# Altium integrated library Analog Devices Data Converters Digital-to-Analog Converters.IntLib: 2231 symbols (part 9 of 181)
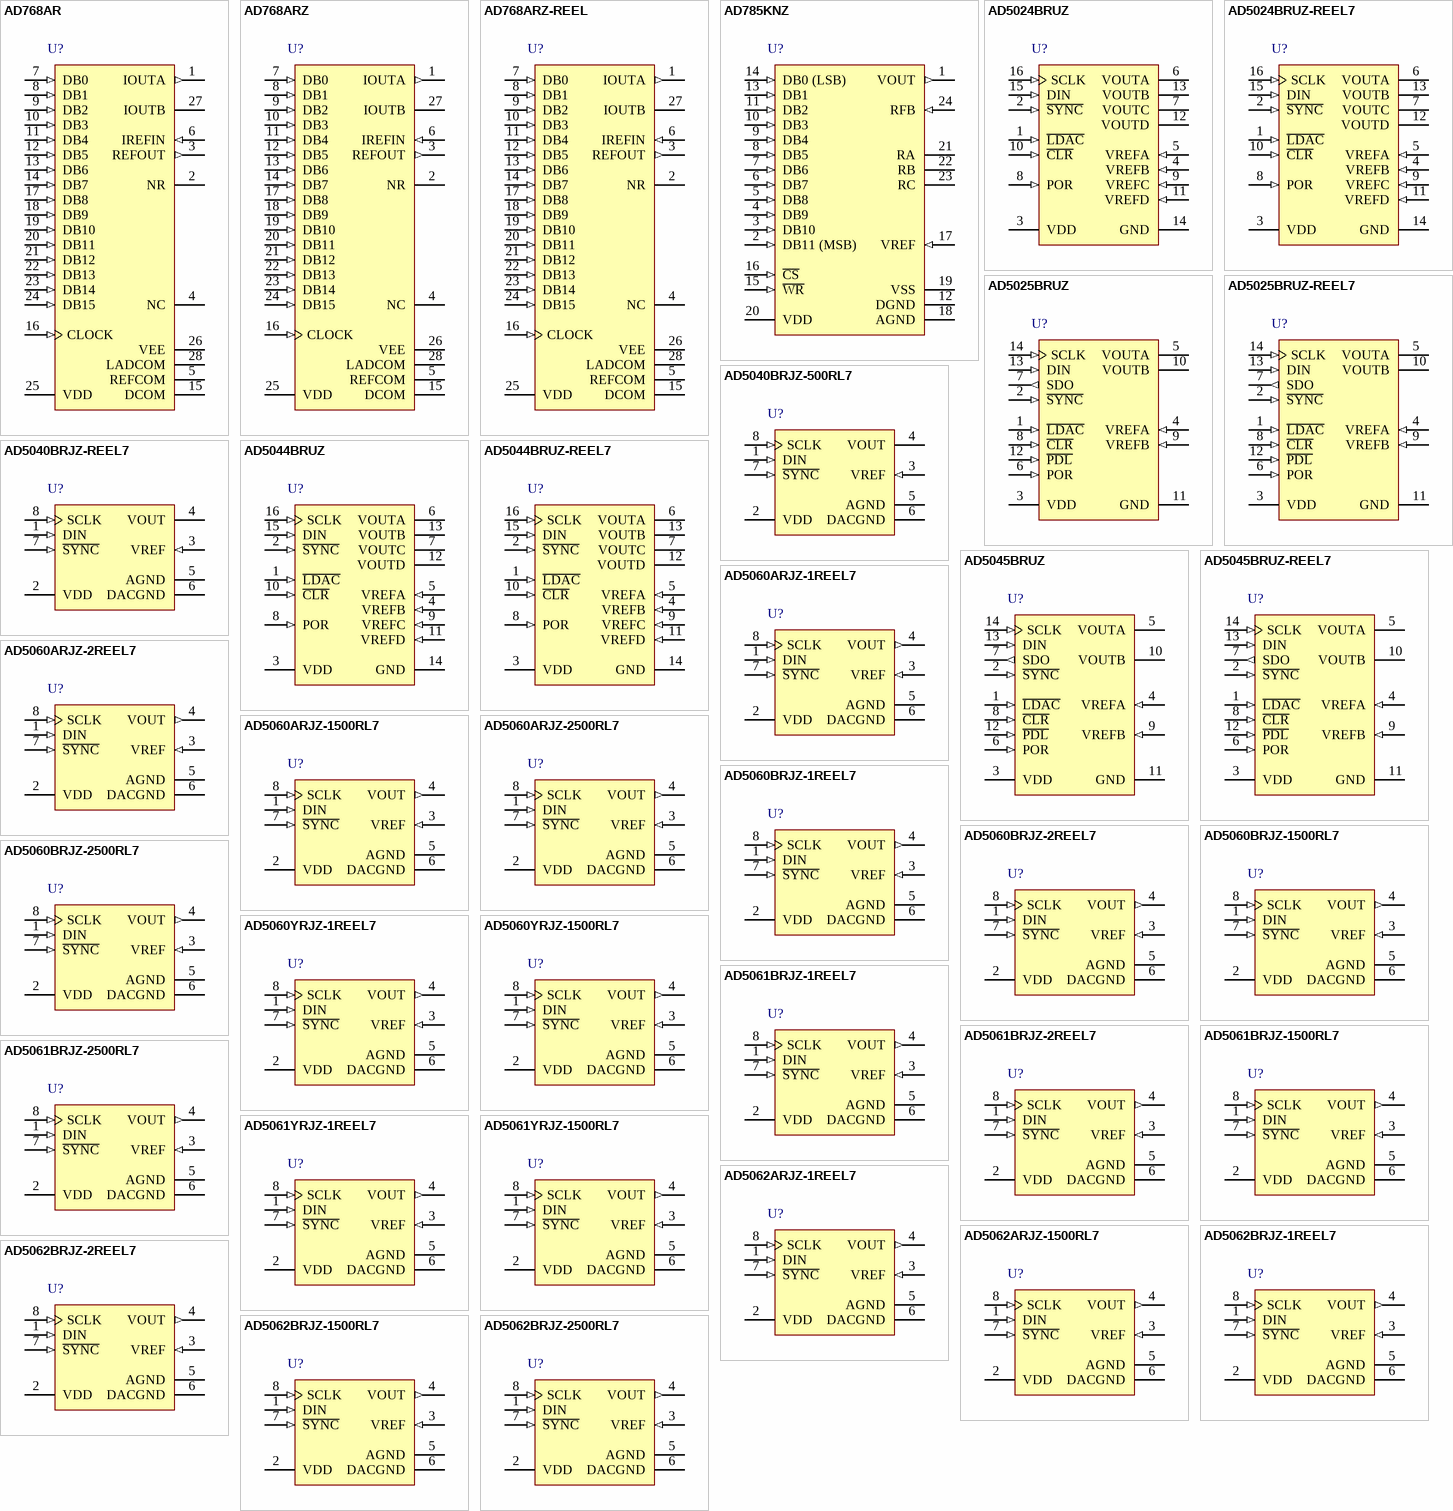
[diagram p122: symbols AD768AR to AD5062BRJZ-2500RL7]

## AD5060ARJZ-2REEL7
designator U?
Single 16-Bit Fully Accurate Voltage Output nanoDAC with SPI Interface, 2.7 to 5.5 V, -40 to +85 degC, RJ-8, Pb-Free, Reel; Generic Part Number: AD5060; Manufacturer: Analog Devices; PartNumber: AD5060ARJZ-2REEL7; # DAC Outputs: 1; Max V+: 5.5V; Op Pwr Diss: 6mW; Resolution (Bits): 16; Settling Time: 4µs; Single Supply: Yes; DatasheetVersion: Rev.A; PackageVersion: 121608-A; PackageReference: RJ-8; PackageDescription: 8-Lead Thin Small Outline Transistor Package [SOT-23]; Supplier 1: Digi-Key; Supplier Part Number 1: AD5060ARJZ-2REEL7TR-ND; Supplier 2: Digi-Key; Supplier Part Number 2: AD5060ARJZ-2REEL7CT-ND; Supplier 3: Digi-Key; Supplier Part Number 3: AD5060ARJZ-2REEL7DKR-ND; Supplier 4: Mouser; Supplier Part Number 4: 584-AD5060ARJZ-2R7; Packing: Reel; RoHS: Y; Mounting Technology: Surface Mount; Code_JEDEC: MO-178-BA; ComponentLink1Description: Manufacturer URL; ComponentLink1URL: http://www.analog.com/en/index.html; ComponentLink2Description: Datasheet; ComponentLink2URL: http://www.analog.com/static/imported-files/data_sheets/AD5040_5060.pdf; ComponentLink3Description: Package Specification; ComponentLink3URL: http://www.analog.com/static/imported-files/packages/PKG_PDF/SOT-23(RJ)/RJ_8.pdf; ComponentLink4Description: Product URL; ComponentLink4URL: http://www.analog.com/en/digital-to-analog-converters/da-converters/ad5060/products/product.html
footprint RJ-8_N (SOP, 8-Leads, Body 2.9x1.6mm, Pitch 0.65mm, IPC Medium Density)
footprint RJ-8_L (SOP, 8-Leads, Body 2.9x1.6mm, Pitch 0.65mm, IPC High Density)
footprint RJ-8_M (SOP, 8-Leads, Body 2.9x1.6mm, Pitch 0.65mm, IPC Low Density)
pins: 1 DIN (in) "Serial Data Input. These parts have a 16-/24-bit shift register. Data is clocked into the register on the falling edge of the serial clock input.", 2 VDD (power) "Power Supply Input. These parts can be operated from 2.7 V to 5.5 V and VDD should be decoupled to GND", 3 VREF (in) "Reference Voltage Input.", 4 VOUT (out) "Analog Output Voltage from DAC.", 5 AGND (power) "Ground Reference Point for Analog Circuitry.", 6 DACGND (power) "Ground Input to the DAC Core.", 7 ~{SYNC} (in) "Level-Triggered Control Input (Active Low). This is the frame synchronization signal for the input data. When S\Y\N\C\ goes low, it enables the input shift register and data is transferred in on the falling edges of the (See Datasheet)", 8 SCLK (in) "Serial Clock Input. Data is clocked into the input shift register on the falling edge of the serial clock input. Data can be transferred at rates up to 30 MHz."

## AD5060ARJZ-1500RL7
designator U?
Single 16-Bit Fully Accurate Voltage Output nanoDAC with SPI Interface, 2.7 to 5.5 V, -40 to +85 degC, RJ-8, Pb-Free, Reel; Generic Part Number: AD5060; Manufacturer: Analog Devices; PartNumber: AD5060ARJZ-1500RL7; # DAC Outputs: 1; Max V+: 5.5V; Op Pwr Diss: 6mW; Resolution (Bits): 16; Settling Time: 4µs; Single Supply: Yes; DatasheetVersion: Rev.A; PackageVersion: 121608-A; PackageReference: RJ-8; PackageDescription: 8-Lead Thin Small Outline Transistor Package [SOT-23]; Supplier 1: Digi-Key; Supplier Part Number 1: AD5060ARJZ-1500RL7-ND; Supplier 2: Farnell; Supplier Part Number 2: 2067823; Supplier 3: Newark; Supplier Part Number 3: 72T0891; Supplier 4: Newark; Supplier Part Number 4: 12M8477; Supplier 5: Mouser; Supplier Part Number 5: 584-AD5060ARJZ1500R7; Packing: Reel; RoHS: Y; Mounting Technology: Surface Mount; Code_JEDEC: MO-178-BA; ComponentLink1Description: Manufacturer URL; ComponentLink1URL: http://www.analog.com/en/index.html; ComponentLink2Description: Datasheet; ComponentLink2URL: http://www.analog.com/static/imported-files/data_sheets/AD5040_5060.pdf; ComponentLink3Description: Package Specification; ComponentLink3URL: http://www.analog.com/static/imported-files/packages/PKG_PDF/SOT-23(RJ)/RJ_8.pdf; ComponentLink4Description: Product URL; ComponentLink4URL: http://www.analog.com/en/digital-to-analog-converters/da-converters/ad5060/products/product.html
footprint RJ-8_N (SOP, 8-Leads, Body 2.9x1.6mm, Pitch 0.65mm, IPC Medium Density)
footprint RJ-8_L (SOP, 8-Leads, Body 2.9x1.6mm, Pitch 0.65mm, IPC High Density)
footprint RJ-8_M (SOP, 8-Leads, Body 2.9x1.6mm, Pitch 0.65mm, IPC Low Density)
pins: 1 DIN (in) "Serial Data Input. These parts have a 16-/24-bit shift register. Data is clocked into the register on the falling edge of the serial clock input.", 2 VDD (power) "Power Supply Input. These parts can be operated from 2.7 V to 5.5 V and VDD should be decoupled to GND", 3 VREF (in) "Reference Voltage Input.", 4 VOUT (out) "Analog Output Voltage from DAC.", 5 AGND (power) "Ground Reference Point for Analog Circuitry.", 6 DACGND (power) "Ground Input to the DAC Core.", 7 ~{SYNC} (in) "Level-Triggered Control Input (Active Low). This is the frame synchronization signal for the input data. When S\Y\N\C\ goes low, it enables the input shift register and data is transferred in on the falling edges of the (See Datasheet)", 8 SCLK (in) "Serial Clock Input. Data is clocked into the input shift register on the falling edge of the serial clock input. Data can be transferred at rates up to 30 MHz."

## AD5060ARJZ-2500RL7
designator U?
Single 16-Bit Fully Accurate Voltage Output nanoDAC with SPI Interface, 2.7 to 5.5 V, -40 to +85 degC, RJ-8, Pb-Free, Reel; Generic Part Number: AD5060; Manufacturer: Analog Devices; PartNumber: AD5060ARJZ-2500RL7; # DAC Outputs: 1; Max V+: 5.5V; Op Pwr Diss: 6mW; Resolution (Bits): 16; Settling Time: 4µs; Single Supply: Yes; DatasheetVersion: Rev.A; PackageVersion: 121608-A; PackageReference: RJ-8; PackageDescription: 8-Lead Thin Small Outline Transistor Package [SOT-23]; Supplier 1: Digi-Key; Supplier Part Number 1: AD5060ARJZ-2500RL7TR-ND; Supplier 2: Digi-Key; Supplier Part Number 2: AD5060ARJZ-2500RL7CT-ND; Supplier 3: Digi-Key; Supplier Part Number 3: AD5060ARJZ-2500RL7DKR-ND; Supplier 4: Farnell; Supplier Part Number 4: 2067824; Supplier 5: Farnell; Supplier Part Number 5: 2067824RL; Supplier 6: Newark; Supplier Part Number 6: 72T0892; Supplier 7: Newark; Supplier Part Number 7: 12M8479; Supplier 8: Mouser; Supplier Part Number 8: 584-AD5060ARJZ2500R7; Packing: Reel; RoHS: Y; Mounting Technology: Surface Mount; Code_JEDEC: MO-178-BA; ComponentLink1Description: Manufacturer URL; ComponentLink1URL: http://www.analog.com/en/index.html; ComponentLink2Description: Datasheet; ComponentLink2URL: http://www.analog.com/static/imported-files/data_sheets/AD5040_5060.pdf; ComponentLink3Description: Package Specification; ComponentLink3URL: http://www.analog.com/static/imported-files/packages/PKG_PDF/SOT-23(RJ)/RJ_8.pdf; ComponentLink4Description: Product URL; ComponentLink4URL: http://www.analog.com/en/digital-to-analog-converters/da-converters/ad5060/products/product.html
footprint RJ-8_N (SOP, 8-Leads, Body 2.9x1.6mm, Pitch 0.65mm, IPC Medium Density)
footprint RJ-8_L (SOP, 8-Leads, Body 2.9x1.6mm, Pitch 0.65mm, IPC High Density)
footprint RJ-8_M (SOP, 8-Leads, Body 2.9x1.6mm, Pitch 0.65mm, IPC Low Density)
pins: 1 DIN (in) "Serial Data Input. These parts have a 16-/24-bit shift register. Data is clocked into the register on the falling edge of the serial clock input.", 2 VDD (power) "Power Supply Input. These parts can be operated from 2.7 V to 5.5 V and VDD should be decoupled to GND", 3 VREF (in) "Reference Voltage Input.", 4 VOUT (out) "Analog Output Voltage from DAC.", 5 AGND (power) "Ground Reference Point for Analog Circuitry.", 6 DACGND (power) "Ground Input to the DAC Core.", 7 ~{SYNC} (in) "Level-Triggered Control Input (Active Low). This is the frame synchronization signal for the input data. When S\Y\N\C\ goes low, it enables the input shift register and data is transferred in on the falling edges of the (See Datasheet)", 8 SCLK (in) "Serial Clock Input. Data is clocked into the input shift register on the falling edge of the serial clock input. Data can be transferred at rates up to 30 MHz."

## AD5060BRJZ-1REEL7
designator U?
Single 16-Bit Fully Accurate Voltage Output nanoDAC with SPI Interface, 2.7 to 5.5 V, -40 to +85 degC, RJ-8, Pb-Free, Reel; Generic Part Number: AD5060; Manufacturer: Analog Devices; PartNumber: AD5060BRJZ-1REEL7; # DAC Outputs: 1; Max V+: 5.5V; Op Pwr Diss: 6mW; Resolution (Bits): 16; Settling Time: 4µs; Single Supply: Yes; DatasheetVersion: Rev.A; PackageVersion: 121608-A; PackageReference: RJ-8; PackageDescription: 8-Lead Thin Small Outline Transistor Package [SOT-23]; Supplier 1: Digi-Key; Supplier Part Number 1: AD5060BRJZ-1REEL7TR-ND; Supplier 2: Digi-Key; Supplier Part Number 2: AD5060BRJZ-1REEL7CT-ND; Supplier 3: Digi-Key; Supplier Part Number 3: AD5060BRJZ-1REEL7DKR-ND; Supplier 4: Farnell; Supplier Part Number 4: 2314126; Supplier 5: Newark; Supplier Part Number 5: 12M8480; Supplier 6: Newark; Supplier Part Number 6: 67W3154; Supplier 7: Mouser; Supplier Part Number 7: 584-AD5060BRJZ-1R7; Packing: Reel; RoHS: Y; Mounting Technology: Surface Mount; Code_JEDEC: MO-178-BA; ComponentLink1Description: Manufacturer URL; ComponentLink1URL: http://www.analog.com/en/index.html; ComponentLink2Description: Datasheet; ComponentLink2URL: http://www.analog.com/static/imported-files/data_sheets/AD5040_5060.pdf; ComponentLink3Description: Package Specification; ComponentLink3URL: http://www.analog.com/static/imported-files/packages/PKG_PDF/SOT-23(RJ)/RJ_8.pdf; ComponentLink4Description: Product URL; ComponentLink4URL: http://www.analog.com/en/digital-to-analog-converters/da-converters/ad5060/products/product.html
footprint RJ-8_N (SOP, 8-Leads, Body 2.9x1.6mm, Pitch 0.65mm, IPC Medium Density)
footprint RJ-8_L (SOP, 8-Leads, Body 2.9x1.6mm, Pitch 0.65mm, IPC High Density)
footprint RJ-8_M (SOP, 8-Leads, Body 2.9x1.6mm, Pitch 0.65mm, IPC Low Density)
pins: 1 DIN (in) "Serial Data Input. These parts have a 16-/24-bit shift register. Data is clocked into the register on the falling edge of the serial clock input.", 2 VDD (power) "Power Supply Input. These parts can be operated from 2.7 V to 5.5 V and VDD should be decoupled to GND", 3 VREF (in) "Reference Voltage Input.", 4 VOUT (out) "Analog Output Voltage from DAC.", 5 AGND (power) "Ground Reference Point for Analog Circuitry.", 6 DACGND (power) "Ground Input to the DAC Core.", 7 ~{SYNC} (in) "Level-Triggered Control Input (Active Low). This is the frame synchronization signal for the input data. When S\Y\N\C\ goes low, it enables the input shift register and data is transferred in on the falling edges of the (See Datasheet)", 8 SCLK (in) "Serial Clock Input. Data is clocked into the input shift register on the falling edge of the serial clock input. Data can be transferred at rates up to 30 MHz."

## AD5060BRJZ-2REEL7
designator U?
Single 16-Bit Fully Accurate Voltage Output nanoDAC with SPI Interface, 2.7 to 5.5 V, -40 to +85 degC, RJ-8, Pb-Free, Reel; Generic Part Number: AD5060; Manufacturer: Analog Devices; PartNumber: AD5060BRJZ-2REEL7; # DAC Outputs: 1; Max V+: 5.5V; Op Pwr Diss: 6mW; Resolution (Bits): 16; Settling Time: 4µs; Single Supply: Yes; DatasheetVersion: Rev.A; PackageVersion: 121608-A; PackageReference: RJ-8; PackageDescription: 8-Lead Thin Small Outline Transistor Package [SOT-23]; Supplier 1: Digi-Key; Supplier Part Number 1: AD5060BRJZ-2REEL7TR-ND; Supplier 2: Digi-Key; Supplier Part Number 2: AD5060BRJZ-2REEL7CT-ND; Supplier 3: Digi-Key; Supplier Part Number 3: AD5060BRJZ-2REEL7DKR-ND; Supplier 4: Newark; Supplier Part Number 4: 12M8482; Supplier 5: Mouser; Supplier Part Number 5: 584-AD5060BRJZ-2R7; Packing: Reel; RoHS: Y; Mounting Technology: Surface Mount; Code_JEDEC: MO-178-BA; ComponentLink1Description: Manufacturer URL; ComponentLink1URL: http://www.analog.com/en/index.html; ComponentLink2Description: Datasheet; ComponentLink2URL: http://www.analog.com/static/imported-files/data_sheets/AD5040_5060.pdf; ComponentLink3Description: Package Specification; ComponentLink3URL: http://www.analog.com/static/imported-files/packages/PKG_PDF/SOT-23(RJ)/RJ_8.pdf; ComponentLink4Description: Product URL; ComponentLink4URL: http://www.analog.com/en/digital-to-analog-converters/da-converters/ad5060/products/product.html
footprint RJ-8_N (SOP, 8-Leads, Body 2.9x1.6mm, Pitch 0.65mm, IPC Medium Density)
footprint RJ-8_L (SOP, 8-Leads, Body 2.9x1.6mm, Pitch 0.65mm, IPC High Density)
footprint RJ-8_M (SOP, 8-Leads, Body 2.9x1.6mm, Pitch 0.65mm, IPC Low Density)
pins: 1 DIN (in) "Serial Data Input. These parts have a 16-/24-bit shift register. Data is clocked into the register on the falling edge of the serial clock input.", 2 VDD (power) "Power Supply Input. These parts can be operated from 2.7 V to 5.5 V and VDD should be decoupled to GND", 3 VREF (in) "Reference Voltage Input.", 4 VOUT (out) "Analog Output Voltage from DAC.", 5 AGND (power) "Ground Reference Point for Analog Circuitry.", 6 DACGND (power) "Ground Input to the DAC Core.", 7 ~{SYNC} (in) "Level-Triggered Control Input (Active Low). This is the frame synchronization signal for the input data. When S\Y\N\C\ goes low, it enables the input shift register and data is transferred in on the falling edges of the (See Datasheet)", 8 SCLK (in) "Serial Clock Input. Data is clocked into the input shift register on the falling edge of the serial clock input. Data can be transferred at rates up to 30 MHz."

## AD5060BRJZ-1500RL7
designator U?
Single 16-Bit Fully Accurate Voltage Output nanoDAC with SPI Interface, 2.7 to 5.5 V, -40 to +85 degC, RJ-8, Pb-Free, Reel; Generic Part Number: AD5060; Manufacturer: Analog Devices; PartNumber: AD5060BRJZ-1500RL7; # DAC Outputs: 1; Max V+: 5.5V; Op Pwr Diss: 6mW; Resolution (Bits): 16; Settling Time: 4µs; Single Supply: Yes; DatasheetVersion: Rev.A; PackageVersion: 121608-A; PackageReference: RJ-8; PackageDescription: 8-Lead Thin Small Outline Transistor Package [SOT-23]; Supplier 1: Digi-Key; Supplier Part Number 1: AD5060BRJZ-1500RL7-ND; Supplier 2: Farnell; Supplier Part Number 2: 2067825; Supplier 3: Newark; Supplier Part Number 3: 72T0893; Supplier 4: Newark; Supplier Part Number 4: 73T6331; Supplier 5: Newark; Supplier Part Number 5: 12M8481; Supplier 6: Mouser; Supplier Part Number 6: 584-AD5060BRJZ1500R7; Packing: Reel; RoHS: Y; Mounting Technology: Surface Mount; Code_JEDEC: MO-178-BA; ComponentLink1Description: Manufacturer URL; ComponentLink1URL: http://www.analog.com/en/index.html; ComponentLink2Description: Datasheet; ComponentLink2URL: http://www.analog.com/static/imported-files/data_sheets/AD5040_5060.pdf; ComponentLink3Description: Package Specification; ComponentLink3URL: http://www.analog.com/static/imported-files/packages/PKG_PDF/SOT-23(RJ)/RJ_8.pdf; ComponentLink4Description: Product URL; ComponentLink4URL: http://www.analog.com/en/digital-to-analog-converters/da-converters/ad5060/products/product.html
footprint RJ-8_N (SOP, 8-Leads, Body 2.9x1.6mm, Pitch 0.65mm, IPC Medium Density)
footprint RJ-8_L (SOP, 8-Leads, Body 2.9x1.6mm, Pitch 0.65mm, IPC High Density)
footprint RJ-8_M (SOP, 8-Leads, Body 2.9x1.6mm, Pitch 0.65mm, IPC Low Density)
pins: 1 DIN (in) "Serial Data Input. These parts have a 16-/24-bit shift register. Data is clocked into the register on the falling edge of the serial clock input.", 2 VDD (power) "Power Supply Input. These parts can be operated from 2.7 V to 5.5 V and VDD should be decoupled to GND", 3 VREF (in) "Reference Voltage Input.", 4 VOUT (out) "Analog Output Voltage from DAC.", 5 AGND (power) "Ground Reference Point for Analog Circuitry.", 6 DACGND (power) "Ground Input to the DAC Core.", 7 ~{SYNC} (in) "Level-Triggered Control Input (Active Low). This is the frame synchronization signal for the input data. When S\Y\N\C\ goes low, it enables the input shift register and data is transferred in on the falling edges of the (See Datasheet)", 8 SCLK (in) "Serial Clock Input. Data is clocked into the input shift register on the falling edge of the serial clock input. Data can be transferred at rates up to 30 MHz."

## AD5060BRJZ-2500RL7
designator U?
Single 16-Bit Fully Accurate Voltage Output nanoDAC with SPI Interface, 2.7 to 5.5 V, -40 to +85 degC, RJ-8, Pb-Free, Reel; Generic Part Number: AD5060; Manufacturer: Analog Devices; PartNumber: AD5060BRJZ-2500RL7; # DAC Outputs: 1; Max V+: 5.5V; Op Pwr Diss: 6mW; Resolution (Bits): 16; Settling Time: 4µs; Single Supply: Yes; DatasheetVersion: Rev.A; PackageVersion: 121608-A; PackageReference: RJ-8; PackageDescription: 8-Lead Thin Small Outline Transistor Package [SOT-23]; Supplier 1: Digi-Key; Supplier Part Number 1: AD5060BRJZ-2500RL7TR-ND; Supplier 2: Digi-Key; Supplier Part Number 2: AD5060BRJZ-2500RL7CT-ND; Supplier 3: Digi-Key; Supplier Part Number 3: AD5060BRJZ-2500RL7DKR-ND; Supplier 4: Farnell; Supplier Part Number 4: 2067826; Supplier 5: Newark; Supplier Part Number 5: 72T0894; Supplier 6: Newark; Supplier Part Number 6: 12M8483; Supplier 7: Mouser; Supplier Part Number 7: 584-AD5060BRJZ2500R7; Packing: Reel; RoHS: Y; Mounting Technology: Surface Mount; Code_JEDEC: MO-178-BA; ComponentLink1Description: Manufacturer URL; ComponentLink1URL: http://www.analog.com/en/index.html; ComponentLink2Description: Datasheet; ComponentLink2URL: http://www.analog.com/static/imported-files/data_sheets/AD5040_5060.pdf; ComponentLink3Description: Package Specification; ComponentLink3URL: http://www.analog.com/static/imported-files/packages/PKG_PDF/SOT-23(RJ)/RJ_8.pdf; ComponentLink4Description: Product URL; ComponentLink4URL: http://www.analog.com/en/digital-to-analog-converters/da-converters/ad5060/products/product.html
footprint RJ-8_N (SOP, 8-Leads, Body 2.9x1.6mm, Pitch 0.65mm, IPC Medium Density)
footprint RJ-8_L (SOP, 8-Leads, Body 2.9x1.6mm, Pitch 0.65mm, IPC High Density)
footprint RJ-8_M (SOP, 8-Leads, Body 2.9x1.6mm, Pitch 0.65mm, IPC Low Density)
pins: 1 DIN (in) "Serial Data Input. These parts have a 16-/24-bit shift register. Data is clocked into the register on the falling edge of the serial clock input.", 2 VDD (power) "Power Supply Input. These parts can be operated from 2.7 V to 5.5 V and VDD should be decoupled to GND", 3 VREF (in) "Reference Voltage Input.", 4 VOUT (out) "Analog Output Voltage from DAC.", 5 AGND (power) "Ground Reference Point for Analog Circuitry.", 6 DACGND (power) "Ground Input to the DAC Core.", 7 ~{SYNC} (in) "Level-Triggered Control Input (Active Low). This is the frame synchronization signal for the input data. When S\Y\N\C\ goes low, it enables the input shift register and data is transferred in on the falling edges of the (See Datasheet)", 8 SCLK (in) "Serial Clock Input. Data is clocked into the input shift register on the falling edge of the serial clock input. Data can be transferred at rates up to 30 MHz."

## AD5060YRJZ-1REEL7
designator U?
Single 16-Bit Fully Accurate Voltage Output nanoDAC with SPI Interface, 2.7 to 5.5 V, -40 to +125 degC, RJ-8, Pb-Free, Reel; Generic Part Number: AD5060; Manufacturer: Analog Devices; PartNumber: AD5060YRJZ-1REEL7; # DAC Outputs: 1; Max V+: 5.5V; Op Pwr Diss: 6mW; Resolution (Bits): 16; Settling Time: 4µs; Single Supply: Yes; DatasheetVersion: Rev.A; PackageVersion: 121608-A; PackageReference: RJ-8; PackageDescription: 8-Lead Thin Small Outline Transistor Package [SOT-23]; Supplier 1: Digi-Key; Supplier Part Number 1: AD5060YRJZ-1REEL7TR-ND; Supplier 2: Digi-Key; Supplier Part Number 2: AD5060YRJZ-1REEL7CT-ND; Supplier 3: Digi-Key; Supplier Part Number 3: AD5060YRJZ-1REEL7DKR-ND; Supplier 4: Mouser; Supplier Part Number 4: 584-AD5060YRJZ-1R7; Packing: Reel; RoHS: Y; Mounting Technology: Surface Mount; Code_JEDEC: MO-178-BA; ComponentLink1Description: Manufacturer URL; ComponentLink1URL: http://www.analog.com/en/index.html; ComponentLink2Description: Datasheet; ComponentLink2URL: http://www.analog.com/static/imported-files/data_sheets/AD5040_5060.pdf; ComponentLink3Description: Package Specification; ComponentLink3URL: http://www.analog.com/static/imported-files/packages/PKG_PDF/SOT-23(RJ)/RJ_8.pdf; ComponentLink4Description: Product URL; ComponentLink4URL: http://www.analog.com/en/digital-to-analog-converters/da-converters/ad5060/products/product.html
footprint RJ-8_N (SOP, 8-Leads, Body 2.9x1.6mm, Pitch 0.65mm, IPC Medium Density)
footprint RJ-8_L (SOP, 8-Leads, Body 2.9x1.6mm, Pitch 0.65mm, IPC High Density)
footprint RJ-8_M (SOP, 8-Leads, Body 2.9x1.6mm, Pitch 0.65mm, IPC Low Density)
pins: 1 DIN (in) "Serial Data Input. These parts have a 16-/24-bit shift register. Data is clocked into the register on the falling edge of the serial clock input.", 2 VDD (power) "Power Supply Input. These parts can be operated from 2.7 V to 5.5 V and VDD should be decoupled to GND", 3 VREF (in) "Reference Voltage Input.", 4 VOUT (out) "Analog Output Voltage from DAC.", 5 AGND (power) "Ground Reference Point for Analog Circuitry.", 6 DACGND (power) "Ground Input to the DAC Core.", 7 ~{SYNC} (in) "Level-Triggered Control Input (Active Low). This is the frame synchronization signal for the input data. When S\Y\N\C\ goes low, it enables the input shift register and data is transferred in on the falling edges of the (See Datasheet)", 8 SCLK (in) "Serial Clock Input. Data is clocked into the input shift register on the falling edge of the serial clock input. Data can be transferred at rates up to 30 MHz."

## AD5060YRJZ-1500RL7
designator U?
Single 16-Bit Fully Accurate Voltage Output nanoDAC with SPI Interface, 2.7 to 5.5 V, -40 to +125 degC, RJ-8, Pb-Free, Reel; Generic Part Number: AD5060; Manufacturer: Analog Devices; PartNumber: AD5060YRJZ-1500RL7; # DAC Outputs: 1; Max V+: 5.5V; Op Pwr Diss: 6mW; Resolution (Bits): 16; Settling Time: 4µs; Single Supply: Yes; DatasheetVersion: Rev.A; PackageVersion: 121608-A; PackageReference: RJ-8; PackageDescription: 8-Lead Thin Small Outline Transistor Package [SOT-23]; Supplier 1: Digi-Key; Supplier Part Number 1: AD5060YRJZ-1500RL7TR-ND; Supplier 2: Digi-Key; Supplier Part Number 2: AD5060YRJZ-1500RL7CT-ND; Supplier 3: Digi-Key; Supplier Part Number 3: AD5060YRJZ-1500RL7DKR-ND; Supplier 4: Farnell; Supplier Part Number 4: 2067827; Supplier 5: Newark; Supplier Part Number 5: 72T0895; Supplier 6: Newark; Supplier Part Number 6: 12M8485; Supplier 7: Mouser; Supplier Part Number 7: 584-AD5060YRJZ1500R7; Packing: Reel; RoHS: Y; Mounting Technology: Surface Mount; Code_JEDEC: MO-178-BA; ComponentLink1Description: Manufacturer URL; ComponentLink1URL: http://www.analog.com/en/index.html; ComponentLink2Description: Datasheet; ComponentLink2URL: http://www.analog.com/static/imported-files/data_sheets/AD5040_5060.pdf; ComponentLink3Description: Package Specification; ComponentLink3URL: http://www.analog.com/static/imported-files/packages/PKG_PDF/SOT-23(RJ)/RJ_8.pdf; ComponentLink4Description: Product URL; ComponentLink4URL: http://www.analog.com/en/digital-to-analog-converters/da-converters/ad5060/products/product.html
footprint RJ-8_N (SOP, 8-Leads, Body 2.9x1.6mm, Pitch 0.65mm, IPC Medium Density)
footprint RJ-8_L (SOP, 8-Leads, Body 2.9x1.6mm, Pitch 0.65mm, IPC High Density)
footprint RJ-8_M (SOP, 8-Leads, Body 2.9x1.6mm, Pitch 0.65mm, IPC Low Density)
pins: 1 DIN (in) "Serial Data Input. These parts have a 16-/24-bit shift register. Data is clocked into the register on the falling edge of the serial clock input.", 2 VDD (power) "Power Supply Input. These parts can be operated from 2.7 V to 5.5 V and VDD should be decoupled to GND", 3 VREF (in) "Reference Voltage Input.", 4 VOUT (out) "Analog Output Voltage from DAC.", 5 AGND (power) "Ground Reference Point for Analog Circuitry.", 6 DACGND (power) "Ground Input to the DAC Core.", 7 ~{SYNC} (in) "Level-Triggered Control Input (Active Low). This is the frame synchronization signal for the input data. When S\Y\N\C\ goes low, it enables the input shift register and data is transferred in on the falling edges of the (See Datasheet)", 8 SCLK (in) "Serial Clock Input. Data is clocked into the input shift register on the falling edge of the serial clock input. Data can be transferred at rates up to 30 MHz."

## AD5061BRJZ-1REEL7
designator U?
Single 16-Bit Voltage Output nanoDAC with SPI Interface, 2.7 to 5.5 V, -40 to +85 degC, RJ-8, Pb-Free, Reel; Generic Part Number: AD5061; Manufacturer: Analog Devices; PartNumber: AD5061BRJZ-1REEL7; # DAC Outputs: 1; Max V+: 5.5V; Op Pwr Diss: 5mW; Resolution (Bits): 16; Settling Time: 4µs; Single Supply: Yes; DatasheetVersion: Rev.B; PackageVersion: 121608-A; PackageReference: RJ-8; PackageDescription: 8-Lead Thin Small Outline Transistor Package [SOT-23]; Supplier 1: Digi-Key; Supplier Part Number 1: AD5061BRJZ-1REEL7TR-ND; Supplier 2: Digi-Key; Supplier Part Number 2: AD5061BRJZ-1REEL7CT-ND; Supplier 3: Digi-Key; Supplier Part Number 3: AD5061BRJZ-1REEL7DKR-ND; Supplier 4: Mouser; Supplier Part Number 4: 584-AD5061BRJZ-1R7; Packing: Reel; RoHS: Y; Mounting Technology: Surface Mount; Code_JEDEC: MO-178-BA; ComponentLink1Description: Manufacturer URL; ComponentLink1URL: http://www.analog.com/en/index.html; ComponentLink2Description: Datasheet; ComponentLink2URL: http://www.analog.com/static/imported-files/data_sheets/AD5061.pdf; ComponentLink3Description: Package Specification; ComponentLink3URL: http://www.analog.com/static/imported-files/packages/PKG_PDF/SOT-23(RJ)/RJ_8.pdf; ComponentLink4Description: Product URL; ComponentLink4URL: http://www.analog.com/en/digital-to-analog-converters/da-converters/ad5061/products/product.html
footprint RJ-8_N (SOP, 8-Leads, Body 2.9x1.6mm, Pitch 0.65mm, IPC Medium Density)
footprint RJ-8_L (SOP, 8-Leads, Body 2.9x1.6mm, Pitch 0.65mm, IPC High Density)
footprint RJ-8_M (SOP, 8-Leads, Body 2.9x1.6mm, Pitch 0.65mm, IPC Low Density)
pins: 1 DIN (in) "Serial Data Input. This device has a 24-bit shift register. Data is clocked into the register on the falling edge of the serial clock input.", 2 VDD (power) "Power Supply Input. These parts can be operated from 2.7 V to 5.5 V and VDD should be decoupled to GND.", 3 VREF (in) "Reference Voltage Input.", 4 VOUT (out) "Analog Output Voltage from DAC", 5 AGND (power) "Ground Reference Point for Analog Circuitry.", 6 DACGND (power) "Ground Input to the DAC.", 7 ~{SYNC} (in) "Level-Triggered Control Input (Active Low). This is the frame synchronization signal for the input data. When S\Y\N\C\ goes low, it enables the input shift register and data is transferred in on the falling edges of the (See Datasheet)", 8 SCLK (in) "Serial Clock Input. Data is clocked into the input shift register on the falling edge of the serial clock input. Data can be transferred at rates up to 30 MHz."

## AD5061BRJZ-2REEL7
designator U?
Single 16-Bit Voltage Output nanoDAC with SPI Interface, 2.7 to 5.5 V, -40 to +85 degC, RJ-8, Pb-Free, Reel; Generic Part Number: AD5061; Manufacturer: Analog Devices; PartNumber: AD5061BRJZ-2REEL7; # DAC Outputs: 1; Max V+: 5.5V; Op Pwr Diss: 5mW; Resolution (Bits): 16; Settling Time: 4µs; Single Supply: Yes; DatasheetVersion: Rev.B; PackageVersion: 121608-A; PackageReference: RJ-8; PackageDescription: 8-Lead Thin Small Outline Transistor Package [SOT-23]; Supplier 1: Digi-Key; Supplier Part Number 1: AD5061BRJZ-2REEL7TR-ND; Supplier 2: Digi-Key; Supplier Part Number 2: AD5061BRJZ-2REEL7CT-ND; Supplier 3: Digi-Key; Supplier Part Number 3: AD5061BRJZ-2REEL7DKR-ND; Supplier 4: Farnell; Supplier Part Number 4: 2314127; Supplier 5: Newark; Supplier Part Number 5: 12M8486; Supplier 6: Newark; Supplier Part Number 6: 67W3155; Supplier 7: Mouser; Supplier Part Number 7: 584-AD5061BRJZ-2R7; Packing: Reel; RoHS: Y; Mounting Technology: Surface Mount; Code_JEDEC: MO-178-BA; ComponentLink1Description: Manufacturer URL; ComponentLink1URL: http://www.analog.com/en/index.html; ComponentLink2Description: Datasheet; ComponentLink2URL: http://www.analog.com/static/imported-files/data_sheets/AD5061.pdf; ComponentLink3Description: Package Specification; ComponentLink3URL: http://www.analog.com/static/imported-files/packages/PKG_PDF/SOT-23(RJ)/RJ_8.pdf; ComponentLink4Description: Product URL; ComponentLink4URL: http://www.analog.com/en/digital-to-analog-converters/da-converters/ad5061/products/product.html
footprint RJ-8_N (SOP, 8-Leads, Body 2.9x1.6mm, Pitch 0.65mm, IPC Medium Density)
footprint RJ-8_L (SOP, 8-Leads, Body 2.9x1.6mm, Pitch 0.65mm, IPC High Density)
footprint RJ-8_M (SOP, 8-Leads, Body 2.9x1.6mm, Pitch 0.65mm, IPC Low Density)
pins: 1 DIN (in) "Serial Data Input. This device has a 24-bit shift register. Data is clocked into the register on the falling edge of the serial clock input.", 2 VDD (power) "Power Supply Input. These parts can be operated from 2.7 V to 5.5 V and VDD should be decoupled to GND.", 3 VREF (in) "Reference Voltage Input.", 4 VOUT (out) "Analog Output Voltage from DAC", 5 AGND (power) "Ground Reference Point for Analog Circuitry.", 6 DACGND (power) "Ground Input to the DAC.", 7 ~{SYNC} (in) "Level-Triggered Control Input (Active Low). This is the frame synchronization signal for the input data. When S\Y\N\C\ goes low, it enables the input shift register and data is transferred in on the falling edges of the (See Datasheet)", 8 SCLK (in) "Serial Clock Input. Data is clocked into the input shift register on the falling edge of the serial clock input. Data can be transferred at rates up to 30 MHz."

## AD5061BRJZ-1500RL7
designator U?
Single 16-Bit Voltage Output nanoDAC with SPI Interface, 2.7 to 5.5 V, -40 to +85 degC, RJ-8, Pb-Free, Reel; Generic Part Number: AD5061; Manufacturer: Analog Devices; PartNumber: AD5061BRJZ-1500RL7; # DAC Outputs: 1; Max V+: 5.5V; Op Pwr Diss: 5mW; Resolution (Bits): 16; Settling Time: 4µs; Single Supply: Yes; DatasheetVersion: Rev.B; PackageVersion: 121608-A; PackageReference: RJ-8; PackageDescription: 8-Lead Thin Small Outline Transistor Package [SOT-23]; Supplier 1: Digi-Key; Supplier Part Number 1: AD5061BRJZ-1500RL7TR-ND; Supplier 2: Digi-Key; Supplier Part Number 2: AD5061BRJZ-1500RL7CT-ND; Supplier 3: Digi-Key; Supplier Part Number 3: AD5061BRJZ-1500RL7DKR-ND; Supplier 4: Farnell; Supplier Part Number 4: 2067828; Supplier 5: Newark; Supplier Part Number 5: 72T0896; Supplier 6: Mouser; Supplier Part Number 6: 584-AD5061BRJZ1500R7; Packing: Reel; RoHS: Y; Mounting Technology: Surface Mount; Code_JEDEC: MO-178-BA; ComponentLink1Description: Manufacturer URL; ComponentLink1URL: http://www.analog.com/en/index.html; ComponentLink2Description: Datasheet; ComponentLink2URL: http://www.analog.com/static/imported-files/data_sheets/AD5061.pdf; ComponentLink3Description: Package Specification; ComponentLink3URL: http://www.analog.com/static/imported-files/packages/PKG_PDF/SOT-23(RJ)/RJ_8.pdf; ComponentLink4Description: Product URL; ComponentLink4URL: http://www.analog.com/en/digital-to-analog-converters/da-converters/ad5061/products/product.html
footprint RJ-8_N (SOP, 8-Leads, Body 2.9x1.6mm, Pitch 0.65mm, IPC Medium Density)
footprint RJ-8_L (SOP, 8-Leads, Body 2.9x1.6mm, Pitch 0.65mm, IPC High Density)
footprint RJ-8_M (SOP, 8-Leads, Body 2.9x1.6mm, Pitch 0.65mm, IPC Low Density)
pins: 1 DIN (in) "Serial Data Input. This device has a 24-bit shift register. Data is clocked into the register on the falling edge of the serial clock input.", 2 VDD (power) "Power Supply Input. These parts can be operated from 2.7 V to 5.5 V and VDD should be decoupled to GND.", 3 VREF (in) "Reference Voltage Input.", 4 VOUT (out) "Analog Output Voltage from DAC", 5 AGND (power) "Ground Reference Point for Analog Circuitry.", 6 DACGND (power) "Ground Input to the DAC.", 7 ~{SYNC} (in) "Level-Triggered Control Input (Active Low). This is the frame synchronization signal for the input data. When S\Y\N\C\ goes low, it enables the input shift register and data is transferred in on the falling edges of the (See Datasheet)", 8 SCLK (in) "Serial Clock Input. Data is clocked into the input shift register on the falling edge of the serial clock input. Data can be transferred at rates up to 30 MHz."

## AD5061BRJZ-2500RL7
designator U?
Single 16-Bit Voltage Output nanoDAC with SPI Interface, 2.7 to 5.5 V, -40 to +85 degC, RJ-8, Pb-Free, Reel; Generic Part Number: AD5061; Manufacturer: Analog Devices; PartNumber: AD5061BRJZ-2500RL7; # DAC Outputs: 1; Max V+: 5.5V; Op Pwr Diss: 5mW; Resolution (Bits): 16; Settling Time: 4µs; Single Supply: Yes; DatasheetVersion: Rev.B; PackageVersion: 121608-A; PackageReference: RJ-8; PackageDescription: 8-Lead Thin Small Outline Transistor Package [SOT-23]; Supplier 1: Digi-Key; Supplier Part Number 1: AD5061BRJZ-2500RL7TR-ND; Supplier 2: Digi-Key; Supplier Part Number 2: AD5061BRJZ-2500RL7CT-ND; Supplier 3: Digi-Key; Supplier Part Number 3: AD5061BRJZ-2500RL7DKR-ND; Supplier 4: Farnell; Supplier Part Number 4: 2067829; Supplier 5: Farnell; Supplier Part Number 5: 2373781; Supplier 6: Newark; Supplier Part Number 6: 12M8487; Supplier 7: Newark; Supplier Part Number 7: 72T0897; Supplier 8: Mouser; Supplier Part Number 8: 584-AD5061BRJZ2500R7; Packing: Reel; RoHS: Y; Mounting Technology: Surface Mount; Code_JEDEC: MO-178-BA; ComponentLink1Description: Manufacturer URL; ComponentLink1URL: http://www.analog.com/en/index.html; ComponentLink2Description: Datasheet; ComponentLink2URL: http://www.analog.com/static/imported-files/data_sheets/AD5061.pdf; ComponentLink3Description: Package Specification; ComponentLink3URL: http://www.analog.com/static/imported-files/packages/PKG_PDF/SOT-23(RJ)/RJ_8.pdf; ComponentLink4Description: Product URL; ComponentLink4URL: http://www.analog.com/en/digital-to-analog-converters/da-converters/ad5061/products/product.html
footprint RJ-8_N (SOP, 8-Leads, Body 2.9x1.6mm, Pitch 0.65mm, IPC Medium Density)
footprint RJ-8_L (SOP, 8-Leads, Body 2.9x1.6mm, Pitch 0.65mm, IPC High Density)
footprint RJ-8_M (SOP, 8-Leads, Body 2.9x1.6mm, Pitch 0.65mm, IPC Low Density)
pins: 1 DIN (in) "Serial Data Input. This device has a 24-bit shift register. Data is clocked into the register on the falling edge of the serial clock input.", 2 VDD (power) "Power Supply Input. These parts can be operated from 2.7 V to 5.5 V and VDD should be decoupled to GND.", 3 VREF (in) "Reference Voltage Input.", 4 VOUT (out) "Analog Output Voltage from DAC", 5 AGND (power) "Ground Reference Point for Analog Circuitry.", 6 DACGND (power) "Ground Input to the DAC.", 7 ~{SYNC} (in) "Level-Triggered Control Input (Active Low). This is the frame synchronization signal for the input data. When S\Y\N\C\ goes low, it enables the input shift register and data is transferred in on the falling edges of the (See Datasheet)", 8 SCLK (in) "Serial Clock Input. Data is clocked into the input shift register on the falling edge of the serial clock input. Data can be transferred at rates up to 30 MHz."

## AD5061YRJZ-1REEL7
designator U?
Single 16-Bit Voltage Output nanoDAC with SPI Interface, 2.7 to 5.5 V, -40 to +125 degC, RJ-8, Pb-Free, Reel; Generic Part Number: AD5061; Manufacturer: Analog Devices; PartNumber: AD5061YRJZ-1REEL7; # DAC Outputs: 1; Max V+: 5.5V; Op Pwr Diss: 5mW; Resolution (Bits): 16; Settling Time: 4µs; Single Supply: Yes; DatasheetVersion: Rev.B; PackageVersion: 121608-A; PackageReference: RJ-8; PackageDescription: 8-Lead Thin Small Outline Transistor Package [SOT-23]; Supplier 1: Digi-Key; Supplier Part Number 1: AD5061YRJZ-1REEL7TR-ND; Supplier 2: Digi-Key; Supplier Part Number 2: AD5061YRJZ-1REEL7CT-ND; Supplier 3: Digi-Key; Supplier Part Number 3: AD5061YRJZ-1REEL7DKR-ND; Supplier 4: Mouser; Supplier Part Number 4: 584-AD5061YRJZ-1R7; Packing: Reel; RoHS: Y; Mounting Technology: Surface Mount; Code_JEDEC: MO-178-BA; ComponentLink1Description: Manufacturer URL; ComponentLink1URL: http://www.analog.com/en/index.html; ComponentLink2Description: Datasheet; ComponentLink2URL: http://www.analog.com/static/imported-files/data_sheets/AD5061.pdf; ComponentLink3Description: Package Specification; ComponentLink3URL: http://www.analog.com/static/imported-files/packages/PKG_PDF/SOT-23(RJ)/RJ_8.pdf; ComponentLink4Description: Product URL; ComponentLink4URL: http://www.analog.com/en/digital-to-analog-converters/da-converters/ad5061/products/product.html
footprint RJ-8_N (SOP, 8-Leads, Body 2.9x1.6mm, Pitch 0.65mm, IPC Medium Density)
footprint RJ-8_L (SOP, 8-Leads, Body 2.9x1.6mm, Pitch 0.65mm, IPC High Density)
footprint RJ-8_M (SOP, 8-Leads, Body 2.9x1.6mm, Pitch 0.65mm, IPC Low Density)
pins: 1 DIN (in) "Serial Data Input. This device has a 24-bit shift register. Data is clocked into the register on the falling edge of the serial clock input.", 2 VDD (power) "Power Supply Input. These parts can be operated from 2.7 V to 5.5 V and VDD should be decoupled to GND.", 3 VREF (in) "Reference Voltage Input.", 4 VOUT (out) "Analog Output Voltage from DAC", 5 AGND (power) "Ground Reference Point for Analog Circuitry.", 6 DACGND (power) "Ground Input to the DAC.", 7 ~{SYNC} (in) "Level-Triggered Control Input (Active Low). This is the frame synchronization signal for the input data. When S\Y\N\C\ goes low, it enables the input shift register and data is transferred in on the falling edges of the (See Datasheet)", 8 SCLK (in) "Serial Clock Input. Data is clocked into the input shift register on the falling edge of the serial clock input. Data can be transferred at rates up to 30 MHz."

## AD5061YRJZ-1500RL7
designator U?
Single 16-Bit Voltage Output nanoDAC with SPI Interface, 2.7 to 5.5 V, -40 to +125 degC, RJ-8, Pb-Free, Reel; Generic Part Number: AD5061; Manufacturer: Analog Devices; PartNumber: AD5061YRJZ-1500RL7; # DAC Outputs: 1; Max V+: 5.5V; Op Pwr Diss: 5mW; Resolution (Bits): 16; Settling Time: 4µs; Single Supply: Yes; DatasheetVersion: Rev.B; PackageVersion: 121608-A; PackageReference: RJ-8; PackageDescription: 8-Lead Thin Small Outline Transistor Package [SOT-23]; Supplier 1: Digi-Key; Supplier Part Number 1: AD5061YRJZ-1500RL7TR-ND; Supplier 2: Digi-Key; Supplier Part Number 2: AD5061YRJZ-1500RL7CT-ND; Supplier 3: Digi-Key; Supplier Part Number 3: AD5061YRJZ-1500RL7DKR-ND; Supplier 4: Farnell; Supplier Part Number 4: 2067830; Supplier 5: Newark; Supplier Part Number 5: 72T0898; Supplier 6: Newark; Supplier Part Number 6: 59K3539; Supplier 7: Mouser; Supplier Part Number 7: 584-AD5061YRJZ1500R7; Packing: Reel; RoHS: Y; Mounting Technology: Surface Mount; Code_JEDEC: MO-178-BA; ComponentLink1Description: Manufacturer URL; ComponentLink1URL: http://www.analog.com/en/index.html; ComponentLink2Description: Datasheet; ComponentLink2URL: http://www.analog.com/static/imported-files/data_sheets/AD5061.pdf; ComponentLink3Description: Package Specification; ComponentLink3URL: http://www.analog.com/static/imported-files/packages/PKG_PDF/SOT-23(RJ)/RJ_8.pdf; ComponentLink4Description: Product URL; ComponentLink4URL: http://www.analog.com/en/digital-to-analog-converters/da-converters/ad5061/products/product.html
footprint RJ-8_N (SOP, 8-Leads, Body 2.9x1.6mm, Pitch 0.65mm, IPC Medium Density)
footprint RJ-8_L (SOP, 8-Leads, Body 2.9x1.6mm, Pitch 0.65mm, IPC High Density)
footprint RJ-8_M (SOP, 8-Leads, Body 2.9x1.6mm, Pitch 0.65mm, IPC Low Density)
pins: 1 DIN (in) "Serial Data Input. This device has a 24-bit shift register. Data is clocked into the register on the falling edge of the serial clock input.", 2 VDD (power) "Power Supply Input. These parts can be operated from 2.7 V to 5.5 V and VDD should be decoupled to GND.", 3 VREF (in) "Reference Voltage Input.", 4 VOUT (out) "Analog Output Voltage from DAC", 5 AGND (power) "Ground Reference Point for Analog Circuitry.", 6 DACGND (power) "Ground Input to the DAC.", 7 ~{SYNC} (in) "Level-Triggered Control Input (Active Low). This is the frame synchronization signal for the input data. When S\Y\N\C\ goes low, it enables the input shift register and data is transferred in on the falling edges of the (See Datasheet)", 8 SCLK (in) "Serial Clock Input. Data is clocked into the input shift register on the falling edge of the serial clock input. Data can be transferred at rates up to 30 MHz."

## AD5062ARJZ-1REEL7
designator U?
Single 16-Bit Fully Accurate Voltage Output nanoDAC with SPI Interface, 2.7 to 5.5 V, -40 to +85 degC, RJ-8, Pb-Free, Reel; Generic Part Number: AD5062; Manufacturer: Analog Devices; PartNumber: AD5062ARJZ-1REEL7; # DAC Outputs: 1; Max V+: 5.5V; Op Pwr Diss: 3.3mW; Resolution (Bits): 16; Settling Time: 4µs; Single Supply: Yes; DatasheetVersion: Rev.A; PackageVersion: 121608-A; PackageReference: RJ-8; PackageDescription: 8-Lead Thin Small Outline Transistor Package [SOT-23]; Supplier 1: Digi-Key; Supplier Part Number 1: AD5062ARJZ-1REEL7TR-ND; Supplier 2: Digi-Key; Supplier Part Number 2: AD5062ARJZ-1REEL7CT-ND; Supplier 3: Digi-Key; Supplier Part Number 3: AD5062ARJZ-1REEL7DKR-ND; Supplier 4: Mouser; Supplier Part Number 4: 584-AD5062ARJZ-1R7; Packing: Reel; RoHS: Y; Mounting Technology: Surface Mount; Code_JEDEC: MO-178-BA; ComponentLink1Description: Manufacturer URL; ComponentLink1URL: http://www.analog.com/en/index.html; ComponentLink2Description: Datasheet; ComponentLink2URL: http://www.analog.com/static/imported-files/data_sheets/AD5062.pdf; ComponentLink3Description: Package Specification; ComponentLink3URL: http://www.analog.com/static/imported-files/packages/PKG_PDF/SOT-23(RJ)/RJ_8.pdf; ComponentLink4Description: Product URL; ComponentLink4URL: http://www.analog.com/en/digital-to-analog-converters/da-converters/ad5062/products/product.html
footprint RJ-8_N (SOP, 8-Leads, Body 2.9x1.6mm, Pitch 0.65mm, IPC Medium Density)
footprint RJ-8_L (SOP, 8-Leads, Body 2.9x1.6mm, Pitch 0.65mm, IPC High Density)
footprint RJ-8_M (SOP, 8-Leads, Body 2.9x1.6mm, Pitch 0.65mm, IPC Low Density)
pins: 1 DIN (in) "Serial Data Input. This device has a 24-bit shift register. Data is clocked into the register on the falling edge of the serial clock input.", 2 VDD (power) "Power Supply Input. These parts can be operated from 2.7 V to 5.5 V, and VDD should be decoupled to GND.", 3 VREF (in) "Reference Voltage Input.", 4 VOUT (out) "Analog Output Voltage from DAC.", 5 AGND (power) "Ground Reference Point for Analog Circuitry.", 6 DACGND (power) "Ground Input to the DAC.", 7 ~{SYNC} (in) "Level-Triggered Control Input (Active Low). This is the frame synchronization signal for the input data. When S\Y\N\C\ goes low, it enables the input shift register, and data is transferred in on the falling edges of the (See Datasheet)", 8 SCLK (in) "Serial Clock Input. Data is clocked into the input shift register on the falling edge of the serial clock input. Data can be transferred at rates up to 30 MHz."

## AD5062ARJZ-1500RL7
designator U?
Single 16-Bit Fully Accurate Voltage Output nanoDAC with SPI Interface, 2.7 to 5.5 V, -40 to +85 degC, RJ-8, Pb-Free, Reel; Generic Part Number: AD5062; Manufacturer: Analog Devices; PartNumber: AD5062ARJZ-1500RL7; # DAC Outputs: 1; Max V+: 5.5V; Op Pwr Diss: 3.3mW; Resolution (Bits): 16; Settling Time: 4µs; Single Supply: Yes; DatasheetVersion: Rev.A; PackageVersion: 121608-A; PackageReference: RJ-8; PackageDescription: 8-Lead Thin Small Outline Transistor Package [SOT-23]; Supplier 1: Digi-Key; Supplier Part Number 1: AD5062ARJZ-1500RL7TR-ND; Supplier 2: Digi-Key; Supplier Part Number 2: AD5062ARJZ-1500RL7CT-ND; Supplier 3: Digi-Key; Supplier Part Number 3: AD5062ARJZ-1500RL7DKR-ND; Supplier 4: Farnell; Supplier Part Number 4: 2067831; Supplier 5: Newark; Supplier Part Number 5: 72T0899; Supplier 6: Newark; Supplier Part Number 6: 59K3541; Supplier 7: Mouser; Supplier Part Number 7: 584-AD5062ARJZ1500R7; Packing: Reel; RoHS: Y; Mounting Technology: Surface Mount; Code_JEDEC: MO-178-BA; ComponentLink1Description: Manufacturer URL; ComponentLink1URL: http://www.analog.com/en/index.html; ComponentLink2Description: Datasheet; ComponentLink2URL: http://www.analog.com/static/imported-files/data_sheets/AD5062.pdf; ComponentLink3Description: Package Specification; ComponentLink3URL: http://www.analog.com/static/imported-files/packages/PKG_PDF/SOT-23(RJ)/RJ_8.pdf; ComponentLink4Description: Product URL; ComponentLink4URL: http://www.analog.com/en/digital-to-analog-converters/da-converters/ad5062/products/product.html
footprint RJ-8_N (SOP, 8-Leads, Body 2.9x1.6mm, Pitch 0.65mm, IPC Medium Density)
footprint RJ-8_L (SOP, 8-Leads, Body 2.9x1.6mm, Pitch 0.65mm, IPC High Density)
footprint RJ-8_M (SOP, 8-Leads, Body 2.9x1.6mm, Pitch 0.65mm, IPC Low Density)
pins: 1 DIN (in) "Serial Data Input. This device has a 24-bit shift register. Data is clocked into the register on the falling edge of the serial clock input.", 2 VDD (power) "Power Supply Input. These parts can be operated from 2.7 V to 5.5 V, and VDD should be decoupled to GND.", 3 VREF (in) "Reference Voltage Input.", 4 VOUT (out) "Analog Output Voltage from DAC.", 5 AGND (power) "Ground Reference Point for Analog Circuitry.", 6 DACGND (power) "Ground Input to the DAC.", 7 ~{SYNC} (in) "Level-Triggered Control Input (Active Low). This is the frame synchronization signal for the input data. When S\Y\N\C\ goes low, it enables the input shift register, and data is transferred in on the falling edges of the (See Datasheet)", 8 SCLK (in) "Serial Clock Input. Data is clocked into the input shift register on the falling edge of the serial clock input. Data can be transferred at rates up to 30 MHz."

## AD5062BRJZ-1REEL7
designator U?
Single 16-Bit Fully Accurate Voltage Output nanoDAC with SPI Interface, 2.7 to 5.5 V, -40 to +85 degC, RJ-8, Pb-Free, Reel; Generic Part Number: AD5062; Manufacturer: Analog Devices; PartNumber: AD5062BRJZ-1REEL7; # DAC Outputs: 1; Max V+: 5.5V; Op Pwr Diss: 3.3mW; Resolution (Bits): 16; Settling Time: 4µs; Single Supply: Yes; DatasheetVersion: Rev.A; PackageVersion: 121608-A; PackageReference: RJ-8; PackageDescription: 8-Lead Thin Small Outline Transistor Package [SOT-23]; Supplier 1: Digi-Key; Supplier Part Number 1: AD5062BRJZ-1REEL7TR-ND; Supplier 2: Digi-Key; Supplier Part Number 2: AD5062BRJZ-1REEL7CT-ND; Supplier 3: Digi-Key; Supplier Part Number 3: AD5062BRJZ-1REEL7DKR-ND; Supplier 4: Mouser; Supplier Part Number 4: 584-AD5062BRJZ-1R7; Packing: Reel; RoHS: Y; Mounting Technology: Surface Mount; Code_JEDEC: MO-178-BA; ComponentLink1Description: Manufacturer URL; ComponentLink1URL: http://www.analog.com/en/index.html; ComponentLink2Description: Datasheet; ComponentLink2URL: http://www.analog.com/static/imported-files/data_sheets/AD5062.pdf; ComponentLink3Description: Package Specification; ComponentLink3URL: http://www.analog.com/static/imported-files/packages/PKG_PDF/SOT-23(RJ)/RJ_8.pdf; ComponentLink4Description: Product URL; ComponentLink4URL: http://www.analog.com/en/digital-to-analog-converters/da-converters/ad5062/products/product.html
footprint RJ-8_N (SOP, 8-Leads, Body 2.9x1.6mm, Pitch 0.65mm, IPC Medium Density)
footprint RJ-8_L (SOP, 8-Leads, Body 2.9x1.6mm, Pitch 0.65mm, IPC High Density)
footprint RJ-8_M (SOP, 8-Leads, Body 2.9x1.6mm, Pitch 0.65mm, IPC Low Density)
pins: 1 DIN (in) "Serial Data Input. This device has a 24-bit shift register. Data is clocked into the register on the falling edge of the serial clock input.", 2 VDD (power) "Power Supply Input. These parts can be operated from 2.7 V to 5.5 V, and VDD should be decoupled to GND.", 3 VREF (in) "Reference Voltage Input.", 4 VOUT (out) "Analog Output Voltage from DAC.", 5 AGND (power) "Ground Reference Point for Analog Circuitry.", 6 DACGND (power) "Ground Input to the DAC.", 7 ~{SYNC} (in) "Level-Triggered Control Input (Active Low). This is the frame synchronization signal for the input data. When S\Y\N\C\ goes low, it enables the input shift register, and data is transferred in on the falling edges of the (See Datasheet)", 8 SCLK (in) "Serial Clock Input. Data is clocked into the input shift register on the falling edge of the serial clock input. Data can be transferred at rates up to 30 MHz."